# EAGLE library part 2X32 (library Sombeck_lib)
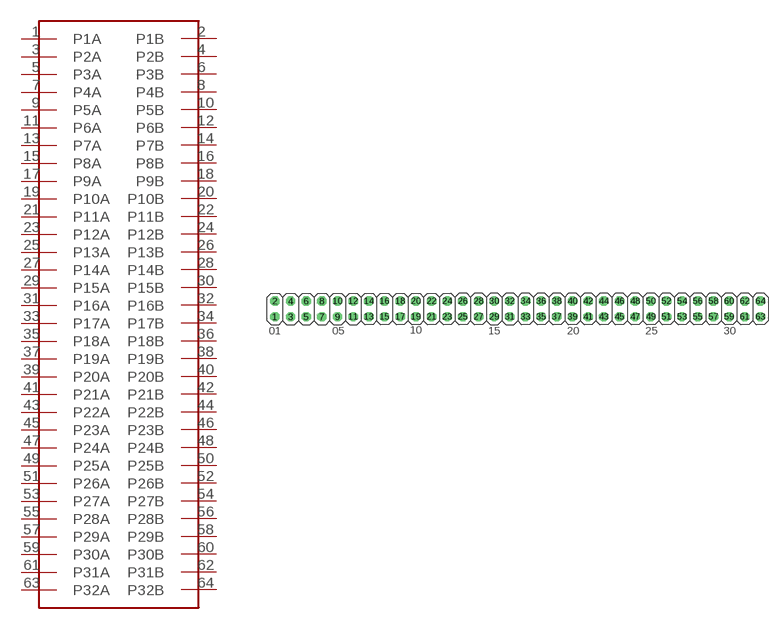
[diagram p4: symbol with the pads of 2X32; footprint 2X32]

Designator prefix -

## 2X32  [2X32]
1  P1A
2  P1B
3  P2A
4  P2B
5  P3A
6  P3B
7  P4A
8  P4B
9  P5A
10  P5B
11  P6A
12  P6B
13  P7A
14  P7B
15  P8A
16  P8B
17  P9A
18  P9B
19  P10A
20  P10B
21  P11A
22  P11B
23  P12A
24  P12B
25  P13A
26  P13B
27  P14A
28  P14B
29  P15A
30  P15B
31  P16A
32  P16B
33  P17A
34  P17B
35  P18A
36  P18B
37  P19A
38  P19B
39  P20A
40  P20B
41  P21A
42  P21B
43  P22A
44  P22B
45  P23A
46  P23B
47  P24A
48  P24B
49  P25A
50  P25B
51  P26A
52  P26B
53  P27A
54  P27B
55  P28A
56  P28B
57  P29A
58  P29B
59  P30A
60  P30B
61  P31A
62  P31B
63  P32A
64  P32B

## Footprint 2X32 (pad centres in mm)
PIN HEADER
drill 1.016 octagon: 1 -38.1,-1.27; 2 -38.1,1.27; 3 -35.56,-1.27; 4 -35.56,1.27; 5 -33.02,-1.27; 6 -33.02,1.27; 7 -30.48,-1.27; 8 -30.48,1.27; 9 -27.94,-1.27; 10 -27.94,1.27; 11 -25.4,-1.27; 12 -25.4,1.27; 13 -22.86,-1.27; 14 -22.86,1.27; 15 -20.32,-1.27; 16 -20.32,1.27; 17 -17.78,-1.27; 18 -17.78,1.27; 19 -15.24,-1.27; 20 -15.24,1.27; 21 -12.7,-1.27; 22 -12.7,1.27; 23 -10.16,-1.27; 24 -10.16,1.27; 25 -7.62,-1.27; 26 -7.62,1.27; 27 -5.08,-1.27; 28 -5.08,1.27; 29 -2.54,-1.27; 30 -2.54,1.27; 31 0,-1.27; 32 0,1.27; 33 2.54,-1.27; 34 2.54,1.27; 35 5.08,-1.27; 36 5.08,1.27; 37 7.62,-1.27; 38 7.62,1.27; 39 10.16,-1.27; 40 10.16,1.27; 41 12.7,-1.27; 42 12.7,1.27; 43 15.24,-1.27; 44 15.24,1.27; 45 17.78,-1.27; 46 17.78,1.27; 47 20.32,-1.27; 48 20.32,1.27; 49 22.86,-1.27; 50 22.86,1.27; 51 25.4,-1.27; 52 25.4,1.27; 53 27.94,-1.27; 54 27.94,1.27; 55 30.48,-1.27; 56 30.48,1.27; 57 33.02,-1.27; 58 33.02,1.27; 59 35.56,-1.27; 60 35.56,1.27; 61 38.1,-1.27; 62 38.1,1.27; 63 40.64,-1.27; 64 40.64,1.27